# Altium footprint library RESAR5460W80L4950T1100H100.PcbLib: 1 footprints
Each footprint in its own frame and in the unit in brackets; x right, y up, seen from the top. Pads: shape width x height; smd on the part's side, far side on the other; paste and mask are expansions set on the pad; w line width, h text height; cw(c..) or ccw(c..) is an arc to the next point about the centre after c.
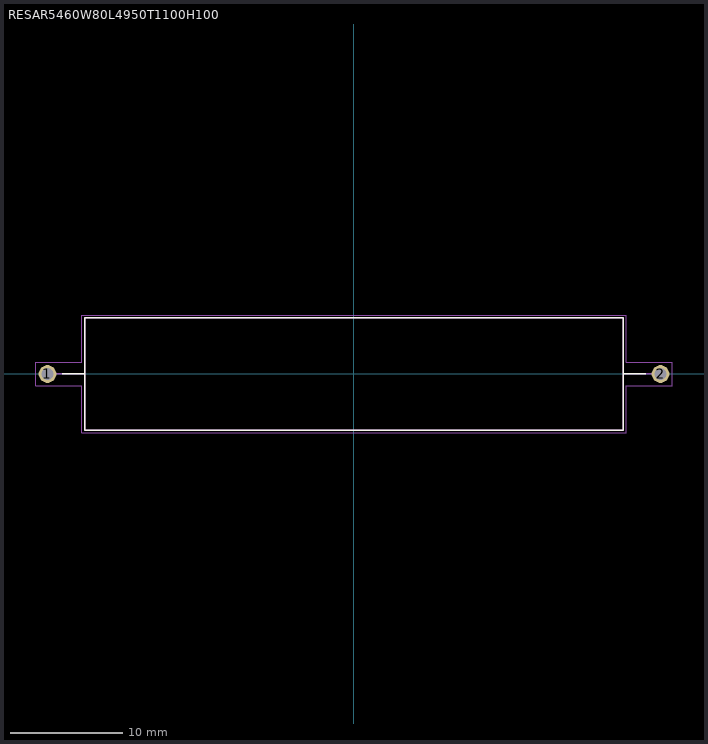
[diagram p0: the footprint, top view; thin cyan lines are the x and y axes]

## RESAR5460W80L4950T1100H100 [mm]
pads (2):
  round 1.58 hole 1.05: 1(-27.3,0) 2(27.3,0)
Top Overlay:
  lines w0.127: -26,0 -24,0 ; 26,0 24,0 ; -24,0 -24,-5 24,-5 24,0 ; -24,0 -24,5 24,5 24,0
Mechanical 13:
  lines w0.127: -27.3,0 -24,0 ; 27.3,0 24,0 ; -24,0 -24,5 24,5 24,0 ; -24,0 -24,-5 24,-5 24,0
Mechanical 15:
  lines w0.05: -28.34,-1.04 -24.25,-1.04 -24.25,-5.25 24.25,-5.25 24.25,-1.04 28.34,-1.04 28.34,1.04 24.25,1.04 24.25,5.25 -24.25,5.25 -24.25,1.04 -28.34,1.04 -28.34,-1.04